# EAGLE library part ADS831 (library untitled)
8-bit 80MHz ADC
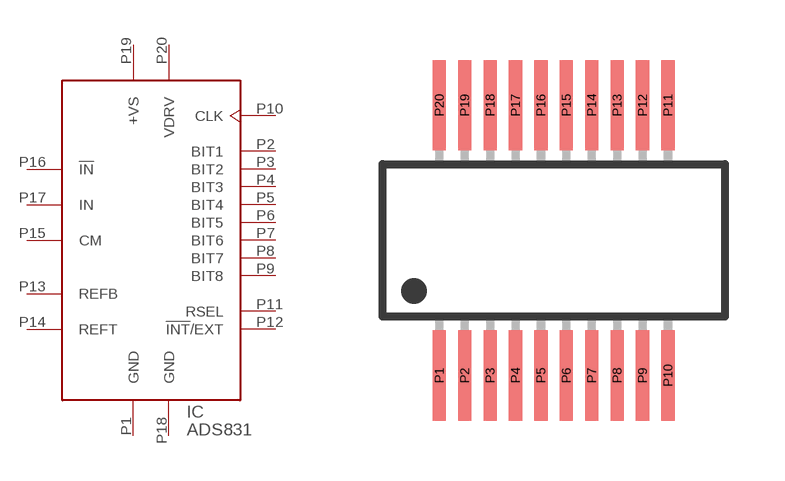
[diagram p5: symbol with the pads of SSOP20-DBQ; footprint SSOP20-DBQ]

Designator prefix IC

## ADS831  [SSOP20-DBQ]
P1  GND  sup
P2  BIT1
P3  BIT2
P4  BIT3
P5  BIT4
P6  BIT5
P7  BIT6
P8  BIT7
P9  BIT8
P10  CLK  in
P11  RSEL
P12  !INT!/EXT
P13  REFB
P14  REFT
P15  CM
P16  !IN
P17  IN
P18  GND  sup
P19  +VS  sup
P20  VDRV  pwr

## Footprint SSOP20-DBQ (pad centres in mm)
SSOP20-DBQ package 0.025 inch pitch
smd 0.33 x 2.261: P1 -2.857,-3.378; P2 -2.223,-3.378; P3 -1.587,-3.378; P4 -0.953,-3.378; P5 -0.318,-3.378; P6 0.318,-3.378; P7 0.953,-3.378; P8 1.587,-3.378; P9 2.223,-3.378; P10 2.857,-3.378; P11 2.857,3.378; P12 2.223,3.378; P13 1.587,3.378; P14 0.953,3.378; P15 0.318,3.378; P16 -0.318,3.378; P17 -0.953,3.378; P18 -1.587,3.378; P19 -2.223,3.378; P20 -2.857,3.378